# Altium schematic symbol library KP-2012SGC.SchLib: 1 symbol
Pins are listed as number, name and electrical type; pins without a type are passive.

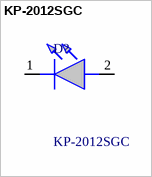
[diagram p0: symbol KP-2012SGC]

## KP-2012SGC
designator D?
Green 0805 clear chip-LED KP-2012SGC Kingbright KP-2012SGC Green LED, 568 nm, 2012 (0805), Rectangle Lens SMD Package; Geometry.Height: 1.1mm; Farnell Part Number: *; Farnell Price/Stock: *; Manufacturer_Name: Kingbright; Manufacturer_Part_Number: KP-2012SGC; Datasheet Link: https://datasheet.datasheetarchive.com/originals/distributors/Datasheets-16/DSA-309851.pdf
footprint LEDC2012X110N
pins: 1 K, 2 A